# Altium integrated library Motorola Peripheral DMA Controller.IntLib: 4 symbols
Pins are listed as number, name and electrical type; pins without a type are passive.

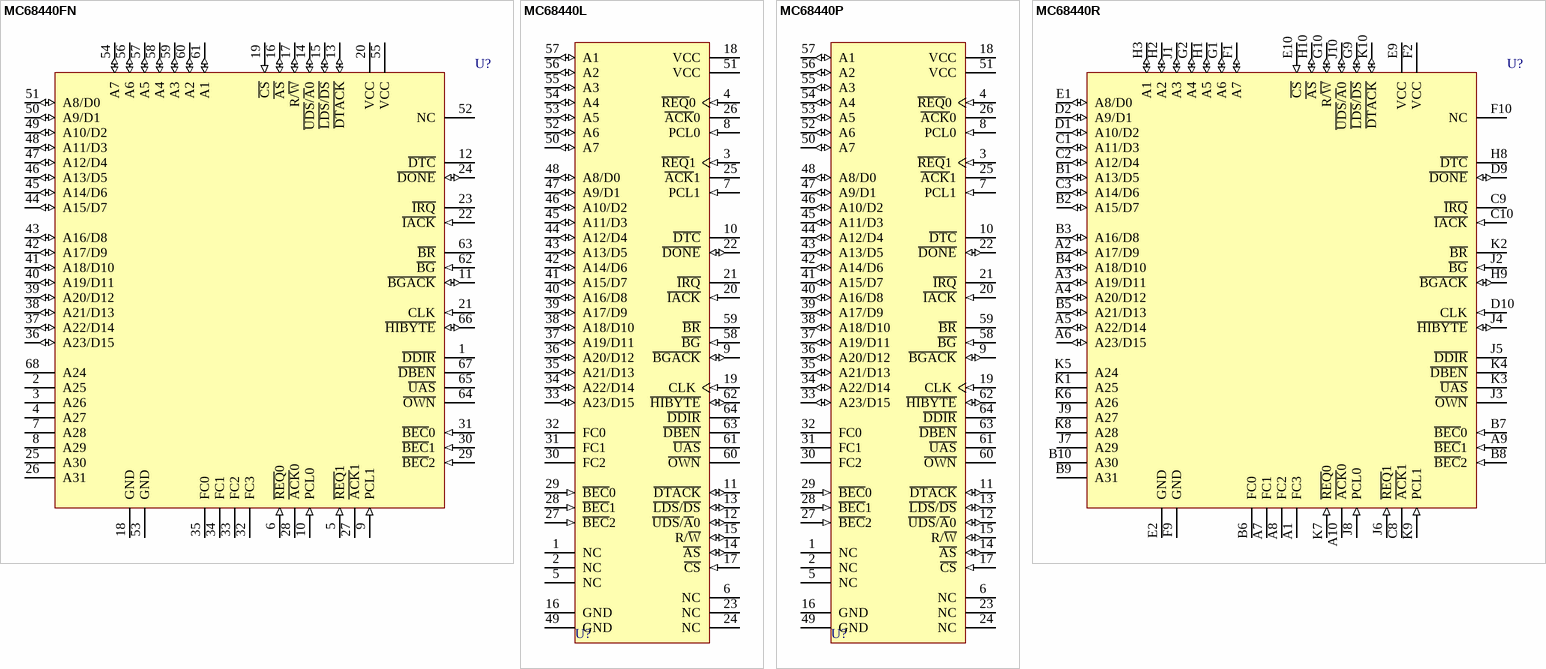
[diagram p0: symbols MC68440FN to MC68440R]

## MC68440FN
designator U?
Dual-Channel Direct Memory Access Controller; Published: 17-Jul-2002; LatestRevisionDate: 13-Apr-2006; LatestRevisionNote: IPC-7351 Footprint Added.; DatasheetVersion: 1990; PackageVersion: 2001; PackageReference: 779-02; Publisher: Altium Limited; PackageDescription: 68-Pin Leaded Chip Carrier 1.27 mm Pitch
footprint 779-02_N (Leaded Chip Carrier, 68-Leads, Body 24.2x24.2mm, Pitch 1.27mm, IPC Medium Density)
footprint 779-02_L (Leaded Chip Carrier, 68-Leads, Body 24.2x24.2mm, Pitch 1.27mm, IPC High Density)
footprint 779-02_M (Leaded Chip Carrier, 68-Leads, Body 24.2x24.2mm, Pitch 1.27mm, IPC Low Density)
3D model MC68440-779-02 (68-Pin Leaded Chip Carrier 1.27 mm Pitch)
pins: 1 ~{DDIR} (hiz), 2 A25 (hiz), 3 A26 (hiz), 4 A27 (hiz), 5 ~{REQ}1 (in), 6 ~{REQ}0 (in), 7 A28 (hiz), 8 A29 (hiz), 9 PCL1 (in), 10 PCL0 (in), 11 ~{BGACK} (io), 12 ~{DTC} (hiz), 13 ~{DTACK} (io), 14 ~{UDS}/~{A}0 (io), 15 ~{LDS}/~{DS} (io), 16 ~{AS} (io), 17 R/~{W} (io), 18 GND (power), 19 ~{CS} (in), 20 VCC (power), 21 CLK (in), 22 ~{IACK} (in), 23 ~{IRQ} (oc), 24 ~{DONE} (io), 25 A30 (hiz), 26 A31 (hiz), 27 ~{ACK}1 (hiz), 28 ~{ACK}0 (hiz), 29 ~{BEC}2 (in), 30 ~{BEC}1 (in), 31 ~{BEC}0 (in), 32 FC3 (hiz), 33 FC2 (hiz), 34 FC1 (hiz), 35 FC0 (hiz), 36 A23/D15 (io), 37 A22/D14 (io), 38 A21/D13 (io), 39 A20/D12 (io), 40 A19/D11 (io), 41 A18/D10 (io), 42 A17/D9 (io), 43 A16/D8 (io), 44 A15/D7 (io), 45 A14/D6 (io), 46 A13/D5 (io), 47 A12/D4 (io), 48 A11/D3 (io), 49 A10/D2 (io), 50 A9/D1 (io), 51 A8/D0 (io), 52 NC, 53 GND (power), 54 A7 (io), 55 VCC (power), 56 A6 (io), 57 A5 (io), 58 A4 (io), 59 A3 (io), 60 A2 (io), 61 A1 (io), 62 ~{BG} (in), 63 ~{BR} (oc), 64 ~{OWN} (oc), 65 ~{UAS} (hiz), 66 ~{HIBYTE} (io), 67 ~{DBEN} (hiz), 68 A24 (hiz)

## MC68440L
designator U?
Dual-Channel Direct Memory Access Controller; Published: 17-Jul-2002; LatestRevisionDate: 06-Jun-2005; LatestRevisionNote: Stylized 3D Model Added.; DatasheetVersion: 1990; PackageReference: 746-01; Publisher: Altium Limited; PackageDescription: DIP; 64 Leads; Row Spacing 22.86 mm; Pitch 2.54 mm
footprint 746-01 (DIP; 64 Leads; Row Spacing 22.86 mm; Pitch 2.54 mm)
3D model 746-01 (DIP; 64 Leads; Row Spacing 22.86 mm; Pitch 2.54 mm)
pins: 1 NC, 2 NC, 3 ~{REQ}1 (in), 4 ~{REQ}0 (in), 5 NC, 6 NC, 7 PCL1 (in), 8 PCL0 (in), 9 ~{BGACK} (io), 10 ~{DTC} (hiz), 11 ~{DTACK} (io), 12 ~{UDS}/~{A}0 (io), 13 ~{LDS}/~{DS} (io), 14 ~{AS} (io), 15 R/~{W} (io), 16 GND (power), 17 ~{CS} (in), 18 VCC (power), 19 CLK (in), 20 ~{IACK} (in), 21 ~{IRQ} (oc), 22 ~{DONE} (io), 23 NC, 24 NC, 25 ~{ACK}1 (hiz), 26 ~{ACK}0 (hiz), 27 ~{BEC}2 (in), 28 ~{BEC}1 (in), 29 ~{BEC}0 (in), 30 FC2 (hiz), 31 FC1 (hiz), 32 FC0 (hiz), 33 A23/D15 (io), 34 A22/D14 (io), 35 A21/D13 (io), 36 A20/D12 (io), 37 A19/D11 (io), 38 A18/D10 (io), 39 A17/D9 (io), 40 A16/D8 (io), 41 A15/D7 (io), 42 A14/D6 (io), 43 A13/D5 (io), 44 A12/D4 (io), 45 A11/D3 (io), 46 A10/D2 (io), 47 A9/D1 (io), 48 A8/D0 (io), 49 GND (power), 50 A7 (io), 51 VCC (power), 52 A6 (io), 53 A5 (io), 54 A4 (io), 55 A3 (io), 56 A2 (io), 57 A1 (io), 58 ~{BG} (in), 59 ~{BR} (oc), 60 ~{OWN} (oc), 61 ~{UAS} (hiz), 62 ~{HIBYTE} (io), 63 ~{DBEN} (hiz), 64 ~{DDIR} (hiz)

## MC68440P
designator U?
Dual-Channel Direct Memory Access Controller; Published: 17-Jul-2002; LatestRevisionDate: 06-Jun-2005; LatestRevisionNote: Stylized 3D Model Added.; DatasheetVersion: 1990; PackageReference: 754-01; Publisher: Altium Limited; PackageDescription: DIP; 64 Leads; Row Spacing 22.86 mm; Pitch 2.54 mm
footprint 754-01 (DIP; 64 Leads; Row Spacing 22.86 mm; Pitch 2.54 mm)
3D model 746-01 (DIP; 64 Leads; Row Spacing 22.86 mm; Pitch 2.54 mm)
pins: 1 NC, 2 NC, 3 ~{REQ}1 (in), 4 ~{REQ}0 (in), 5 NC, 6 NC, 7 PCL1 (in), 8 PCL0 (in), 9 ~{BGACK} (io), 10 ~{DTC} (hiz), 11 ~{DTACK} (io), 12 ~{UDS}/~{A}0 (io), 13 ~{LDS}/~{DS} (io), 14 ~{AS} (io), 15 R/~{W} (io), 16 GND (power), 17 ~{CS} (in), 18 VCC (power), 19 CLK (in), 20 ~{IACK} (in), 21 ~{IRQ} (oc), 22 ~{DONE} (io), 23 NC, 24 NC, 25 ~{ACK}1 (hiz), 26 ~{ACK}0 (hiz), 27 ~{BEC}2 (in), 28 ~{BEC}1 (in), 29 ~{BEC}0 (in), 30 FC2 (hiz), 31 FC1 (hiz), 32 FC0 (hiz), 33 A23/D15 (io), 34 A22/D14 (io), 35 A21/D13 (io), 36 A20/D12 (io), 37 A19/D11 (io), 38 A18/D10 (io), 39 A17/D9 (io), 40 A16/D8 (io), 41 A15/D7 (io), 42 A14/D6 (io), 43 A13/D5 (io), 44 A12/D4 (io), 45 A11/D3 (io), 46 A10/D2 (io), 47 A9/D1 (io), 48 A8/D0 (io), 49 GND (power), 50 A7 (io), 51 VCC (power), 52 A6 (io), 53 A5 (io), 54 A4 (io), 55 A3 (io), 56 A2 (io), 57 A1 (io), 58 ~{BG} (in), 59 ~{BR} (oc), 60 ~{OWN} (oc), 61 ~{UAS} (hiz), 62 ~{HIBYTE} (io), 63 ~{DBEN} (hiz), 64 ~{DDIR} (hiz)

## MC68440R
designator U?
Dual-Channel Direct Memory Access Controller; Published: 17-Jul-2002; LatestRevisionDate: 06-Jun-2005; LatestRevisionNote: Stylized 3D Model Added.; DatasheetVersion: 1990; PackageReference: 765A-05; Publisher: Altium Limited; PackageDescription: 68-Pin Pin Grid Array 2.54 mm Pitch
footprint 765A-05 (PGA, 68-Leads, Body 27x27mm, Pitch 2.54mm)
3D model MC68440-765A-05 (68-Pin Pin Grid Array 2.54 mm Pitch)
pins: A1 FC3 (hiz), A2 A17/D9 (io), A3 A19/D11 (io), A4 A20/D12 (io), A5 A22/D14 (io), A6 A23/D15 (io), A7 FC1 (hiz), A8 FC2 (hiz), A9 ~{BEC}1 (in), A10 ~{ACK}0 (hiz), B1 A13/D5 (io), B2 A15/D7 (io), B3 A16/D8 (io), B4 A18/D10 (io), B5 A21/D13 (io), B6 FC0 (hiz), B7 ~{BEC}0 (in), B8 ~{BEC}2 (in), B9 A31 (hiz), B10 A30 (hiz), C1 A11/D3 (io), C2 A12/D4 (io), C3 A14/D6 (io), C8 ~{ACK}1 (hiz), C9 ~{IRQ} (oc), C10 ~{IACK} (in), D1 A10/D2 (io), D2 A9/D1 (io), D9 ~{DONE} (io), D10 CLK (in), E1 A8/D0 (io), E2 GND (power), E9 VCC (power), E10 ~{CS} (in), F1 A7 (io), F2 VCC (power), F9 GND (power), F10 NC, G1 A6 (io), G2 A4 (io), G9 ~{LDS}/~{DS} (io), G10 R/~{W} (io), H1 A5 (io), H2 A2 (io), H3 A1 (io), H8 ~{DTC} (hiz), H9 ~{BGACK} (io), H10 ~{AS} (io), J1 A3 (io), J2 ~{BG} (in), J3 ~{OWN} (oc), J4 ~{HIBYTE} (io), J5 ~{DDIR} (hiz), J6 ~{REQ}1 (in), J7 A29 (hiz), J8 PCL0 (in), J9 A27 (hiz), J10 ~{UDS}/~{A}0 (io), K1 A25 (hiz), K2 ~{BR} (oc), K3 ~{UAS} (hiz), K4 ~{DBEN} (hiz), K5 A24 (hiz), K6 A26 (hiz), K7 ~{REQ}0 (in), K8 A28 (hiz), K9 PCL1 (in), K10 ~{DTACK} (io)